# Altium footprint library Connector.PcbLib: 88 footprints (part 4 of 6)
Each footprint in its own frame and in the unit in brackets; x right, y up, seen from the top. Pads: shape width x height; smd on the part's side, far side on the other; paste and mask are expansions set on the pad; w line width, h text height; cw(c..) or ccw(c..) is an arc to the next point about the centre after c.
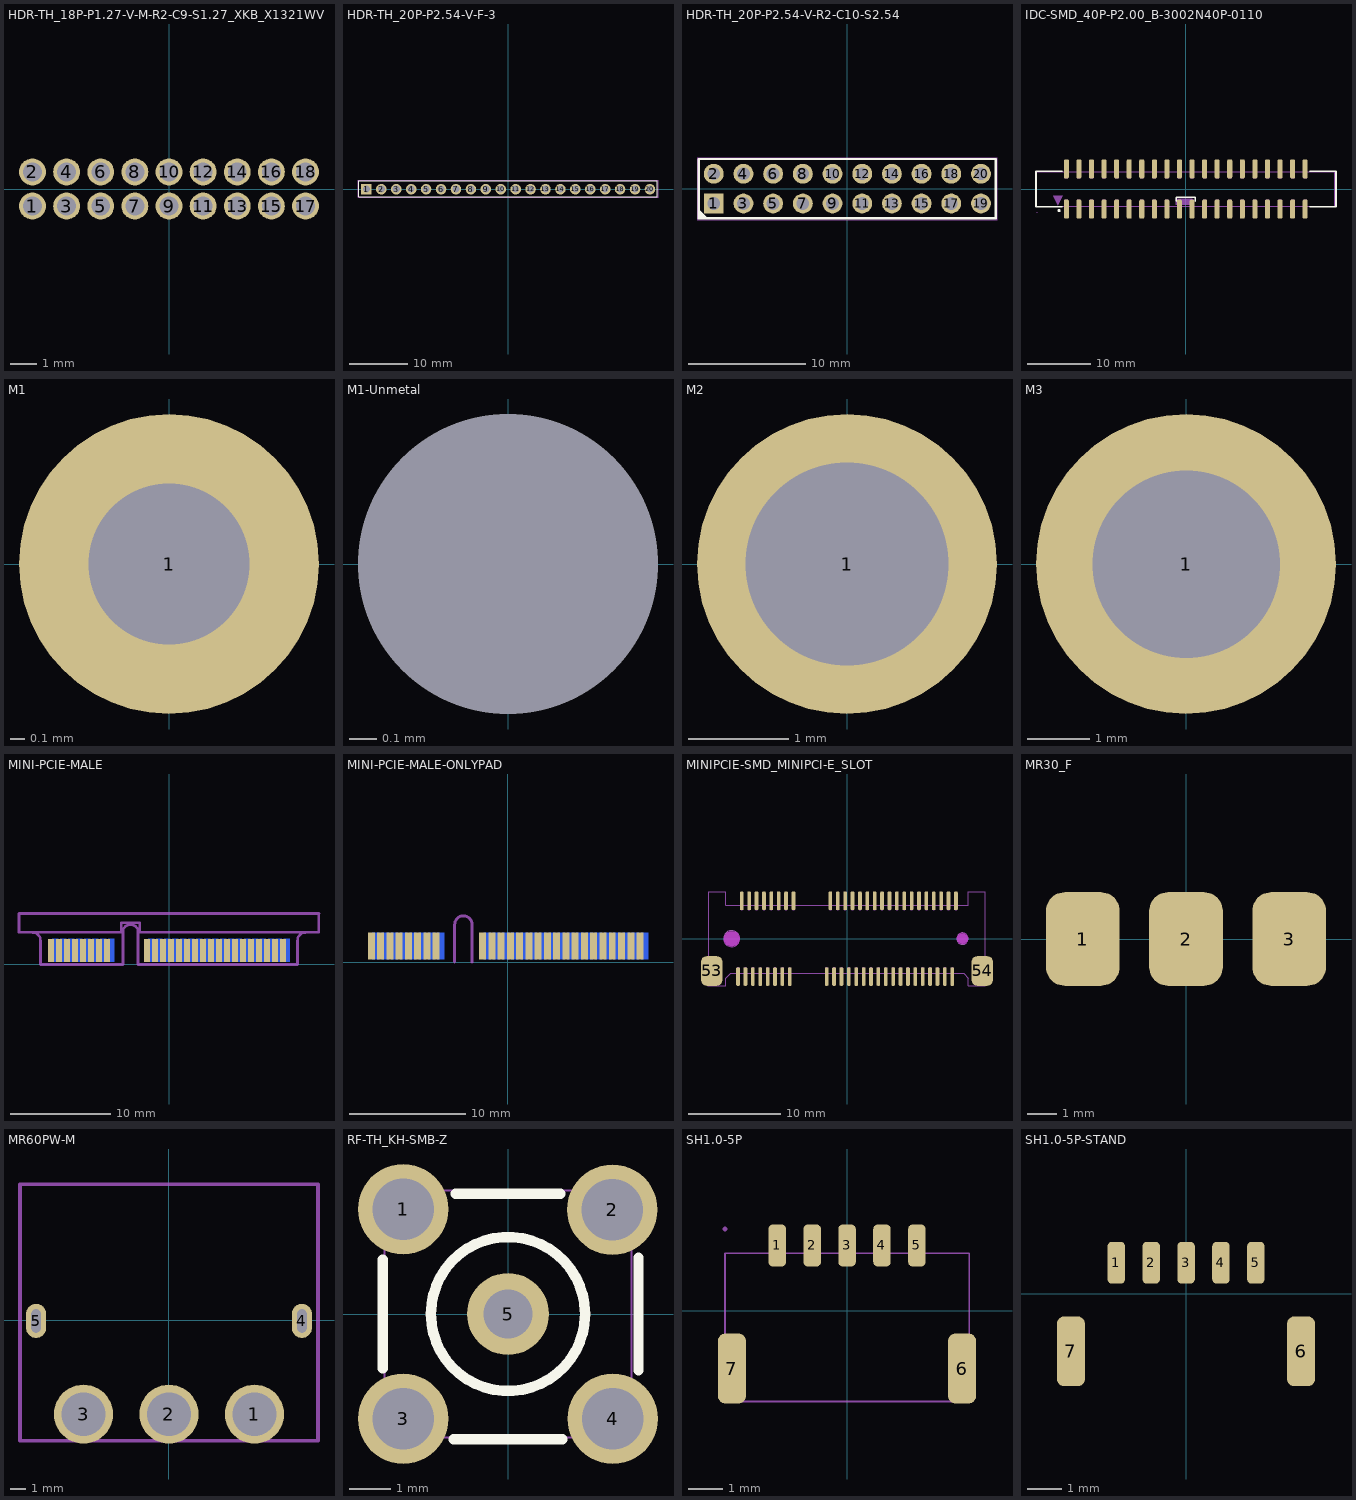
[diagram p3: the footprints below, top view; thin cyan lines are the x and y axes]

## HDR-TH_18P-P1.27-V-M-R2-C9-S1.27_XKB_X1321WV [mm]
pads (18):
  round 1 hole 0.7: 1(-5.08,-0.635) 2(-5.08,0.635) 3(-3.81,-0.635) 4(-3.81,0.635) 5(-2.54,-0.635) 6(-2.54,0.635) 7(-1.27,-0.635) 8(-1.27,0.635) 9(0,-0.635) 10(0,0.635) 11(1.27,-0.635) 12(1.27,0.635) 13(2.54,-0.635) 14(2.54,0.635) 15(3.81,-0.635) 16(3.81,0.635) 17(5.08,-0.635) 18(5.08,0.635)
3D body "conntefc.step": height 4.03, standoff -2.27, extent -5.715,-1.697 5.715,1.703

## HDR-TH_20P-P2.54-V-F-3 [mm]
pads (20):
  rect 1.8x1.8 hole 1.2 paste-2539.97 mask+0.051: 1(-24.13,0)
  round 1.8 hole 1.2 paste-2539.97 mask+0.051: 2(-21.59,0) 3(-19.05,0) 4(-16.51,0) 5(-13.97,0) 6(-11.43,0) 7(-8.89,0) 8(-6.35,0) 9(-3.81,0) 10(-1.27,0) 11(1.27,0) 12(3.81,0) 13(6.35,0) 14(8.89,0) 15(11.43,0) 16(13.97,0) 17(16.51,0) 18(19.05,0) 19(21.59,0) 20(24.13,0)
Top Overlay:
  lines w0.203: -25.4,-1.27 25.4,-1.27 25.4,1.27 25.4,1.397 -25.4,1.397 -25.4,-1.27
Mechanical 15:
  drawing of 25 lines, arcs and shapes, not listed

## HDR-TH_20P-P2.54-V-R2-C10-S2.54 [mm]
pads (20):
  rect 1.699x1.699 hole 1.1 mask+0.051: 1(-11.43,-1.27)
  round 1.699 hole 1.1 mask+0.051: 2(-11.43,1.27) 3(-8.89,-1.27) 4(-8.89,1.27) 5(-6.35,-1.27) 6(-6.35,1.27) 7(-3.81,-1.27) 8(-3.81,1.27) 9(-1.27,-1.27) 10(-1.27,1.27) 11(1.27,-1.27) 12(1.27,1.27) 13(3.81,-1.27) 14(3.81,1.27) 15(6.35,-1.27) 16(6.35,1.27) 17(8.89,-1.27) 18(8.89,1.27) 19(11.43,-1.27) 20(11.43,1.27)
Top Overlay:
  region: -12.7,-1.778 -11.938,-2.54 -12.7,-2.54
  lines w0.203: -12.7,-2.54 -10.795,-2.54 12.7,-2.54 12.7,2.54 -10.795,2.54 -12.7,2.54 -12.7,-2.54
Mechanical 15:
  drawing of 25 lines, arcs and shapes, not listed

## IDC-SMD_40P-P2.00_B-3002N40P-0110 [mm]
pads (40):
  rrect50% 0.8x3 smd: 1(-19,-3.2) 2(-19,3.2) 3(-17,-3.2) 4(-17,3.2) 5(-15,-3.2) 6(-15,3.2) 7(-13,-3.2) 8(-13,3.2) 9(-11,-3.2) 10(-11,3.2) 11(-9,-3.2) 12(-9,3.2) 13(-7,-3.2) 14(-7,3.2) 15(-5,-3.2) 16(-5,3.2) 17(-3,-3.2) 18(-3,3.2) 19(-1,-3.2) 20(-1,3.2) 21(1,-3.2) 22(1,3.2) 23(3,-3.2) 24(3,3.2) 25(5,-3.2) 26(5,3.2) 27(7,-3.2) 28(7,3.2) 29(9,-3.2) 30(9,3.2) 31(11,-3.2) 32(11,3.2) 33(13,-3.2) 34(13,3.2) 35(15,-3.2) 36(15,3.2) 37(17,-3.2) 38(17,3.2) 39(19,-3.2) 40(19,3.2)
Top Overlay:
  circle w0.254: c-20.146,-3.429 r0.127
  lines w0.254: -19.638,-2.794 -23.829,-2.794 -23.829,2.794 -19.638,2.794 ; -1.524,-1.969 -1.524,-1.334 1.524,-1.334 1.524,-1.969 ; 19.716,-2.794 23.907,-2.794 23.907,2.794 19.716,2.794
Mechanical 6:
  region: -21.045,-1.108 -19.591,-1.104 -20.348,-2.577
  region: 1.06,-1.59 1.06,-2.529 -1.587,-2.529 -1.582,-1.59
Mechanical 15:
  drawing of 45 lines, arcs and shapes, not listed

## M1 [mil] "M1螺孔"
pads (1):
  round 80 hole 43 mask+4: 1(0,0)

## M1-Unmetal [mil] "M1螺孔"
pads (1):
  round 0 hole 43 unplated mask+4: 1(0,0)

## M2 [mm] "M2螺孔"
pads (1):
  round 3 hole 2.032 mask+0.102: 1(0,0)

## M3 [mm]
pads (1):
  round 4.8 hole 3: 1(0,0)

## MINI-PCIE-MALE [mm]
pads (52):
  rect 0.6x2.3 smd paste+0 mask+0.102: 1(-11.8,1.4) 3(-11,1.4) 5(-10.2,1.4) 7(-9.4,1.4) 9(-8.6,1.4) 11(-7.8,1.4) 13(-7,1.4) 15(-6.2,1.4) 17(-2.2,1.4) 19(-1.4,1.4) 21(-0.6,1.4) 23(0.2,1.4) 25(1,1.4) 27(1.8,1.4) 29(2.6,1.4) 31(3.4,1.4) 33(4.2,1.4) 35(5,1.4) 37(5.8,1.4) 39(6.6,1.4) 41(7.4,1.4) 43(8.2,1.4) 45(9,1.4) 47(9.8,1.4) 49(10.6,1.4) 51(11.4,1.4)
  rect 0.6x2.3 smd far side paste+0 mask+0.102: 2(-11.4,1.4) 4(-10.6,1.4) 6(-9.8,1.4) 8(-9,1.4) 10(-8.2,1.4) 12(-7.4,1.4) 14(-6.6,1.4) 16(-5.8,1.4) 18(-1.8,1.4) 20(-1,1.4) 22(-0.2,1.4) 24(0.6,1.4) 26(1.4,1.4) 28(2.2,1.4) 30(3,1.4) 32(3.8,1.4) 34(4.6,1.4) 36(5.4,1.4) 38(6.2,1.4) 40(7,1.4) 42(7.8,1.4) 44(8.6,1.4) 46(9.4,1.4) 48(10.2,1.4) 50(11,1.4) 52(11.8,1.4)
Mechanical 1:
  lines w0.254: -15,5.08 -15,3.205 -13.654,3.205 ; -13.65,3.2 cw(c-13.65,2.4) -12.85,2.4 -12.85,0 -4.6,0 -4.6,3.25 cw(c-3.85,3.25) -3.1,3.25 -3.1,0 12.85,0 12.85,2.4 cw(c13.65,2.4) 13.65,3.2 ; 13.651,3.205 14.997,3.205 14.997,5.08
Mechanical 6:
  lines w0.254: -15,3.205 -4.79,3.205 -4.79,4.196 -2.91,4.196 -2.91,3.205 14.997,3.205 ; -15,5.1 15,5.1

## MINI-PCIE-MALE-ONLYPAD [mm]
pads (52):
  rect 0.6x2.3 smd paste+0 mask+0.102: 1(-11.8,1.4) 3(-11,1.4) 5(-10.2,1.4) 7(-9.4,1.4) 9(-8.6,1.4) 11(-7.8,1.4) 13(-7,1.4) 15(-6.2,1.4) 17(-2.2,1.4) 19(-1.4,1.4) 21(-0.6,1.4) 23(0.2,1.4) 25(1,1.4) 27(1.8,1.4) 29(2.6,1.4) 31(3.4,1.4) 33(4.2,1.4) 35(5,1.4) 37(5.8,1.4) 39(6.6,1.4) 41(7.4,1.4) 43(8.2,1.4) 45(9,1.4) 47(9.8,1.4) 49(10.6,1.4) 51(11.4,1.4)
  rect 0.6x2.3 smd far side paste+0 mask+0.102: 2(-11.4,1.4) 4(-10.6,1.4) 6(-9.8,1.4) 8(-9,1.4) 10(-8.2,1.4) 12(-7.4,1.4) 14(-6.6,1.4) 16(-5.8,1.4) 18(-1.8,1.4) 20(-1,1.4) 22(-0.2,1.4) 24(0.6,1.4) 26(1.4,1.4) 28(2.2,1.4) 30(3,1.4) 32(3.8,1.4) 34(4.6,1.4) 36(5.4,1.4) 38(6.2,1.4) 40(7,1.4) 42(7.8,1.4) 44(8.6,1.4) 46(9.4,1.4) 48(10.2,1.4) 50(11,1.4) 52(11.8,1.4)
Mechanical 1:
  lines w0.254: -4.6,0 -4.6,3.25 cw(c-3.85,3.25) -3.1,3.25 -3.1,0

## MINIPCIE-SMD_MINIPCI-E_SLOT [mm]
pads (54):
  rrect50% 0.4x2 smd: 1(-11.8,-4.1) 2(-11.4,4.1) 3(-11,-4.1) 4(-10.6,4.1) 5(-10.2,-4.1) 6(-9.8,4.1) 7(-9.4,-4.1) 8(-9,4.1) 9(-8.6,-4.1) 10(-8.2,4.1) 11(-7.8,-4.1) 12(-7.4,4.1) 13(-7,-4.1) 14(-6.6,4.1) 15(-6.2,-4.1) 16(-5.8,4.1) 17(-2.2,-4.1) 18(-1.8,4.1) 19(-1.4,-4.1) 20(-1,4.1) 21(-0.6,-4.1) 22(-0.2,4.1) 23(0.2,-4.1) 24(0.6,4.1) 25(1,-4.1) 26(1.4,4.1) 27(1.8,-4.1) 28(2.2,4.1) 29(2.6,-4.1) 30(3,4.1) 31(3.4,-4.1) 32(3.8,4.1) 33(4.2,-4.1) 34(4.6,4.1) 35(5,-4.1) 36(5.4,4.1) 37(5.8,-4.1) 38(6.2,4.1) 39(6.602,-4.1) 40(7,4.1) 41(7.4,-4.1) 42(7.8,4.1) 43(8.2,-4.1) 44(8.6,4.1) 45(9,-4.1) 46(9.402,4.1) 47(9.8,-4.1) 48(10.2,4.1) 49(10.6,-4.1) 50(11,4.1) 51(11.4,-4.1) 52(11.8,4.1)
  rrect50% 2.3x3.2 smd: 53(-14.65,-3.5) 54(14.65,-3.5)
Keep-Out Layer:
  board cut-out: -11.625,0 -11.626,0.114 -11.687,0.335 -11.803,0.532 -11.966,0.694 -12.164,0.807 -12.386,0.866 -12.615,0.866 -12.836,0.807 -13.034,0.693 -13.197,0.532 -13.313,0.335 -13.374,0.114 -13.375,0 -13.374,-0.115 -13.313,-0.335 -13.197,-0.533 -13.034,-0.694 -12.836,-0.807 -12.614,-0.866 -12.386,-0.866 -12.164,-0.807 -11.966,-0.694 -11.803,-0.533 -11.687,-0.335 -11.626,-0.114 -11.625,0
  board cut-out: 13.125,0 13.124,0.124 13.029,0.353 12.853,0.528 12.624,0.622 12.376,0.622 12.147,0.528 11.971,0.353 11.875,0.124 11.875,0 11.875,-0.124 11.971,-0.353 12.147,-0.528 12.376,-0.622 12.624,-0.622 12.853,-0.528 13.029,-0.353 13.124,-0.124 13.125,0
Mechanical 1:
  circle w0.005: c-12.5,0 r0.875
  circle w0.005: c12.5,0 r0.625
Mechanical 6:
  circle w0.8: c-12.5,0 r0.4
  circle w0.55: c12.5,0 r0.275
Mechanical 15:
  drawing of 69 lines, arcs and shapes, not listed
3D body "minipcie.step": height 4.13, standoff -0.47, extent -14.991,-5.05 15.009,5.15

## MR30_F [mm] "MR30_F_卧贴"
pads (3):
  rrect50% 2.5x3.175 smd: 1(-3.5,0) 2(0,0) 3(3.5,0)
3D body "User Library-Amass MR30-FB.step": height 2.6, standoff -2.6, extent -6.1,-11.842 6.1,0.658

## MR60PW-M [mm]
pads (5):
  round 3.8 hole 2.8 mask+0.051: 1(5.5,-6.034) 2(0,-6.034) 3(-5.5,-6.034)
  oval 1.3x2.2 hole 0.6 slot 1.5 at 90 deg paste-2539.97 mask+0.05: 4(8.55,-0.034) 5(-8.55,-0.034)
Mechanical 15:
  lines w0.254: -9.6,-7.742 9.6,-7.742 9.6,8.758 -9.6,8.758 -9.6,-7.742
3D body "3D_PCB1_2023-12-06000.step": height 8.58, standoff -2.87, extent -9.6,-8.164 9.6,11.336

## RF-TH_KH-SMB-Z [mm]
pads (5):
  round 2.2 hole 1.5 paste-2539.97 mask+0.05: 1(-2.55,2.55) 2(2.54,2.54) 3(-2.55,-2.55) 4(2.55,-2.55)
  round 2 hole 1.2 paste-2539.97 mask+0.05: 5(0,0)
Top Overlay:
  circle w0.254: c0,0 r1.875
  lines w0.254: -3.048,-1.316 -3.048,1.316 ; -1.316,-3.048 1.316,-3.048 ; -1.272,2.921 1.272,2.921 ; 3.175,-1.375 3.175,1.375
Mechanical 15:
  region: 0.45,0 0.45,0.09 0.382,0.255 0.255,0.382 0.09,0.45 -0.09,0.45 -0.255,0.382 -0.382,0.255 -0.45,0.09 -0.45,0 -0.45,-0.09 -0.382,-0.255 -0.255,-0.382 -0.09,-0.45 0.09,-0.45 0.255,-0.382 0.382,-0.255 0.45,-0.09 0.45,0
  region: 2.1,3 3,3 3,2.1 2.1,2.1
  region: 2.1,-2.1 3,-2.1 3,-3 2.1,-3
  region: -3,-2.1 -2.1,-2.1 -2.1,-3 -3,-3
  region: -3,3 -2.1,3 -2.1,2.1 -3,2.1
  region: -2.94,3 -2.94,3.025 -2.975,3.06 -3.025,3.06 -3.06,3.025 -3.06,3 -3.06,2.975 -3.025,2.94 -2.975,2.94 -2.94,2.975 -2.94,3
  lines w0.051: -3,-3 3,-3 3,3 -3,3 -3,-3

## SH1.0-5P [mm]
pads (7):
  rrect50% 0.5x1.2 smd paste+0 mask+0.051: 1(-2,1.876) 2(-1,1.876) 3(0,1.876) 4(1,1.876) 5(2,1.876)
  rrect50% 0.8x2 smd paste+0 mask+0.051: 6(3.298,-1.651) 7(-3.302,-1.651)
Mechanical 15:
  region: -3.44,2.351 -3.44,2.376 -3.475,2.411 -3.525,2.411 -3.56,2.376 -3.56,2.351 -3.56,2.327 -3.525,2.291 -3.475,2.291 -3.44,2.327 -3.44,2.351
  region: 2.1,1.401 1.9,1.401 1.9,2.351 2.1,2.351
  region: 1.1,1.401 0.9,1.401 0.9,2.351 1.1,2.351
  region: 0.1,1.401 -0.1,1.401 -0.1,2.351 0.1,2.351
  region: -0.9,1.401 -1.1,1.401 -1.1,2.351 -0.9,2.351
  region: -1.9,1.401 -2.1,1.401 -2.1,2.351 -1.9,2.351
  region: -3.4,-1.099 -3.2,-1.099 -3.2,-2.599 -3.4,-2.599
  region: 3.2,-1.099 3.4,-1.099 3.4,-2.599 3.2,-2.599
  lines w0.051: -3.5,-2.599 -3.5,1.651 3.5,1.651 3.5,-2.599 -3.5,-2.599
3D body "SM5B-SRSS-TB.step": height 2.9, standoff -0.05, extent -3.5,-2.599 3.5,2.351

## SH1.0-5P-STAND [mm]
pads (7):
  rrect50% 0.5x1.2 smd paste+0 mask+0.051: 1(-2,0.889) 2(-1,0.889) 3(0,0.889) 4(1,0.889) 5(2,0.889)
  rrect50% 0.8x2 smd paste+0 mask+0.051: 6(3.298,-1.651) 7(-3.302,-1.651)
Mechanical 15:
  region: -3.4,-1.099 -3.2,-1.099 -3.2,-2.599 -3.4,-2.599
  region: 3.2,-1.099 3.4,-1.099 3.4,-2.599 3.2,-2.599
3D body "BM5B-SRSS-TB.step": height 4.25, standoff -0.05, extent -3.5,-2.584 3.5,1.016